# EAGLE library part NANO (library nanopi_neo_hat_template_eagle)
NanoPi NEO/NEO2 Hat Template
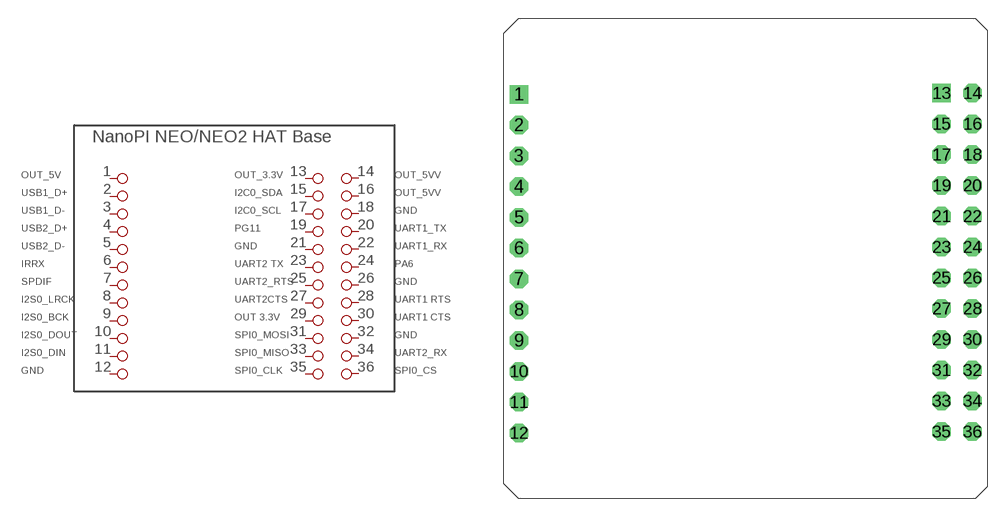
[diagram p0: symbol with the pads of NANOPI_NEO_HAT; footprint NANOPI_NEO_HAT]

Designator prefix -

## NANO (SPDIF: SPDIF)  [NANOPI_NEO_HAT]
1  OUT_5V_P1  pas
2  USB_1_D+_2  pas
3  USB_1_D-_3  pas
4  USB_2_D+_4  pas
5  USB_2_D-_5  pas
6  IR_RX_6  pas
7  SPDIF_P_7  pas
8  LRCK_8  pas
9  BCK_9  pas
10  DOUT_10  pas
11  DIN_11  pas
12  GND_12  pas
13  OUT_3.3V_13  pas
14  OUT_5V_14  pas
15  I2C0_SDA_15  pas
16  OUT_5V_16  pas
17  I2C0_SCL_17  pas
18  GND_18  pas
19  PG11_19  pas
20  UART1_TX_20  pas
21  GND_21  pas
22  UART1_RX_22  pas
23  UART2TX_23  pas
24  PA6_24  pas
25  UART2_RTS_25  pas
26  GND26  pas
27  UART2_CTS_27  pas
28  UART1_RTS_28  pas
29  3V3_29  pas
30  UART1_CTS_30  pas
31  MOSI_31  pas
32  GND_32  pas
33  SPI0_MISO_33  pas
34  UART2_RX_34  pas
35  SPI0_CLK_35  pas
36  SPI_0_CS_36  pas

## Footprint NANOPI_NEO_HAT (pad centres in mm)
NanoPi Neo/Neo2 Hat Template
drill 1.016 square: 1 1.143,33.426; 13 36.017,33.528
drill 1.016 octagon: 2 1.143,30.886; 3 1.143,28.346; 4 1.143,25.806; 5 1.143,23.266; 6 1.143,20.726; 7 1.143,18.186; 8 1.143,15.646; 9 1.143,13.106; 10 1.143,10.566; 11 1.143,8.026; 12 1.143,5.486; 14 38.557,33.528; 15 36.017,30.988; 16 38.557,30.988; 17 36.017,28.448; 18 38.557,28.448; 19 36.017,25.908; 20 38.557,25.908; 21 36.017,23.368; 22 38.557,23.368; 23 36.017,20.828; 24 38.557,20.828; 25 36.017,18.288; 26 38.557,18.288; 27 36.017,15.748; 28 38.557,15.748; 29 36.017,13.208; 30 38.557,13.208; 31 36.017,10.668; 32 38.557,10.668; 33 36.017,8.128; 34 38.557,8.128; 35 36.017,5.588; 36 38.557,5.588